# Altium schematic symbol library DECA.SchLib: 2 symbols
Pins are listed as number, name and electrical type; pins without a type are passive.

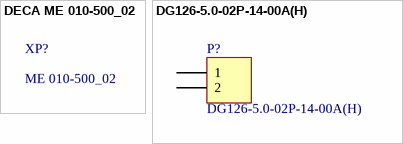
[diagram p0: symbols DECA ME 010-500_02 to DG126-5.0-02P-14-00A(H)]

## DECA ME 010-500_02
designator XP?, comment ME 010-500_02

## DG126-5.0-02P-14-00A(H)
designator P?
LatestRevisionDate: 17-Jul-2002; LatestRevisionNote: Re-released for DXP Platform.; Publisher: Altium Limited
footprint DG126-5.0-02P-14-00A(H) (footprint)
signal-integrity model Connector
pins: 1, 2